# Altium integrated library USB4130-GF-C.IntLib: 1 symbol
Pins are listed as number, name and electrical type; pins without a type are passive.

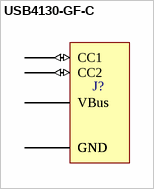
[diagram p0: symbol USB4130-GF-C]

## USB4130-GF-C
designator J?
footprint USB4130-GF-C
pins: 1 GND (power), 2 VBus (power), 3 CC1 (io), 4 CC2 (io), 5 VBus (power), 6 GND (power), 7 GND (power), 8 GND (power)